# Altium integrated library ThunderKit.IntLib: 58 symbols (part 2 of 2)
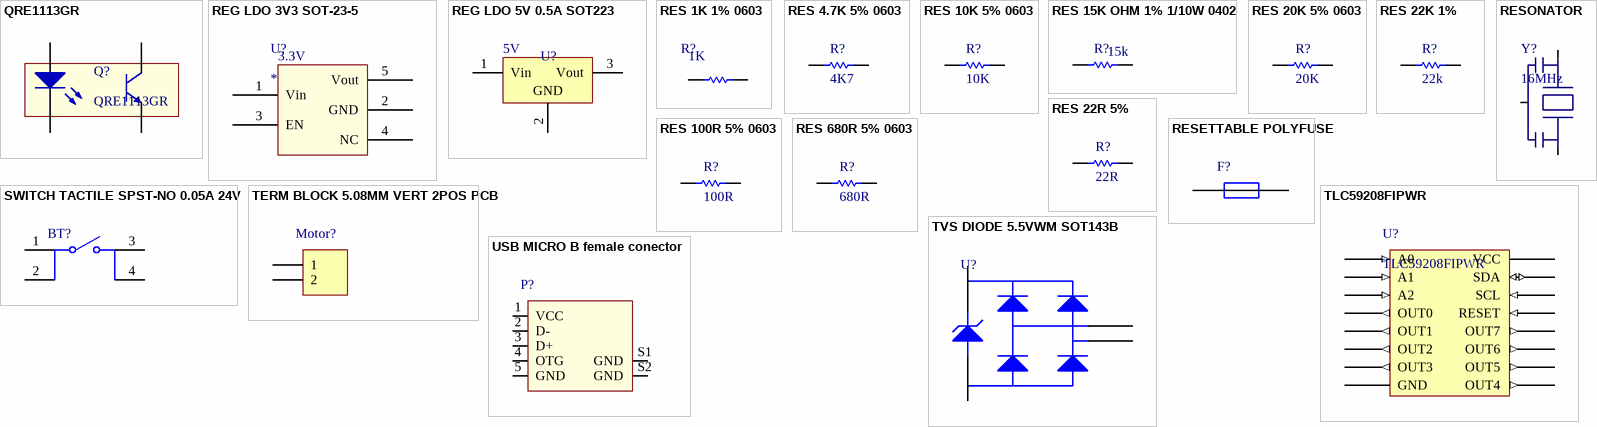
[diagram p2: symbols QRE1113GR to USB MICRO B female conector]

## RES 22R 5%
designator R?, comment 22R
RES SMD 22 OHM 5% 1/20W 0201; Manufacturer: Panasonic Electronic Components; Manufacturer Part Number: ERJ-1GEJ220C; Resistance (Ohms): 22; Power (Watts): 0.05W, 1/20W; Temperature Coefficient: ±200ppm/°C; Supplier 1: Digi-Key; RoHS: RoHS Compliant; Category: Resistors; Stock 1: 409383; Pricing 1: 1=0.1, 10=0.039, 25=0.0284, 50=0.0216, 100=0.0159, 250=0.01216, 500=0.00972, 1000=0.00716, 5000=0.00513 (USD); Packaging: Cut Tape (CT); Part Status: Active; Tolerance: ±5%; Composition: Thick Film; Features: -; Operating Temperature: -55°C ~ 125°C; Package / Case: 0201 (0603 Metric); Supplier Device Package: 0201; Size / Dimension: 0.024" L x 0.012" W (0.60mm x 0.30mm); Height - Seated (Max): 0.010" (0.26mm); Number of Terminations: 2; Failure Rate: -; ComponentLink1URL: http://media.digikey.com/pdf/Data%20Sheets/Panasonic%20Resistors%20Thermistors%20PDFs/ERJ%205%25.pdf; ComponentLink1Description: http://media.digikey.com/pdf/Data%20Sheets/Panasonic%20Resistors%20Thermistors%20PDFs/ERJ%205%25.pdf; Supplier Part Number 1: P22AGCT-ND
footprint RESISTOR 0603 (RES 5% 0603)
pins: 1, 2

## RES 100R 5% 0603
designator R?, comment 100R
Manufacturer: PANASONIC ELECTRONIC COMPONENTS; Manufacturer Part Number: ERJ-3EKF1000V; Product Range: AEC-Q200 ERJ3; Resistance: 100; Resistance Tolerance: 1%; Voltage Rating: 75; Resistor Case Style: 0603 [1608 Metric]; Tolerance: ±1%; Power (Watts): 0.1W, 1/10W; Temperature Coefficient: ±100ppm/°C; Brand: Panasonic; Qualification: AEC-Q200; RoHS: YES; Power Rating: 100; Packaging: Cut Tape; MSL: -; ComponentLink1URL: http://www.farnell.com/cad/1560092.zip; ComponentLink1Description: http://www.farnell.com/cad/1560092.zip; ComponentLink2URL: http://www.farnell.com/datasheets/1678782.pdf; ComponentLink2Description: http://www.farnell.com/datasheets/1678782.pdf; Category: Resistors; Resistance (Ohms): 100; Composition: Thick Film; Features: Automotive AEC-Q200; Operating Temperature: -55°C ~ 155°C; Package / Case: 0603 (1608 Metric); Supplier Device Package: 0603; Size / Dimension: 0.063" L x 0.031" W (1.60mm x 0.80mm); Height: 0.022" (0.55mm); Number of Terminations: 2; ComponentLink3URL: http://industrial.panasonic.com/www-cgi/jvcr13pz.cgi?E+PZ+3+AOA0002+ERJ3EKF1000V+7+WW; ComponentLink3Description: http://industrial.panasonic.com/www-cgi/jvcr13pz.cgi?E+PZ+3+AOA0002+ERJ3EKF1000V+7+WW; Length: 1.6 mm; Operating Temperature Range: - 55 C to + 155 C; Product: Thick Film Resistors SMD; Series: ERJ; Termination Style: SMD/SMT; Type: Precision Thick Film Resistors SMD; Width: 0.8 mm; Case Code - in: 0603; Case Code - mm: 1608; RoHS - Mouser: E; Minimum Order Quantity: 1; Reeling: True; ComponentLink4URL: http://www.mouser.com/ds/2/315/AOA0000C86-911473.pdf; ComponentLink4Description: http://www.mouser.com/ds/2/315/AOA0000C86-911473.pdf; Supplier 1: Mouser; Stock 1: 6963; Pricing 1: 1=0.288, 10=0.174, 100=0.101, 1000=0.069, 5000=0.053, 10000=0.046, 25000=0.042, 50000=0.035, 100000=0.029 (AUD); Diameter: -; Product Category: 0603 Thick Film Chip Resistors; ComponentLink6URL: http://www.mouser.com/ds/2/427/crcwhpe3-46056.pdf; ComponentLink6Description: http://www.mouser.com/ds/2/427/crcwhpe3-46056.pdf; Supplier Part Number 1: 71-CRCW0603100RJNEAH
footprint RESISTOR 0603 (RES 5% 0603)
pins: 1, 2

## RES 680R 5% 0603
designator R?, comment 680R
Manufacturer: PANASONIC ELECTRONIC COMPONENTS; Manufacturer Part Number: ERJ-3GEYJ681V; Product Range: AEC-Q200 ERJ3; Resistance: 680; Power Rating: 100; Resistance Tolerance: 5%; Voltage Rating: 75; Resistor Case Style: 0603 [1608 Metric]; Tolerance: ±5%; Power (Watts): 0.1W, 1/10W; Temperature Coefficient: ±200ppm/°C; Brand: Panasonic; Qualification: AEC-Q200; RoHS: YES; Packaging: Cut Tape; MSL: -; ComponentLink1URL: http://www.farnell.com/cad/1697908.zip; ComponentLink1Description: http://www.farnell.com/cad/1697908.zip; ComponentLink2URL: http://www.farnell.com/datasheets/1678796.pdf; ComponentLink2Description: http://www.farnell.com/datasheets/1678796.pdf; Category: Resistors; Composition: Thick Film; Features: Automotive AEC-Q200; Operating Temperature: -55°C ~ 155°C; Package / Case: 0603 (1608 Metric); Supplier Device Package: 0603; Size / Dimension: 0.063" L x 0.031" W (1.60mm x 0.80mm); Height: 0.022" (0.55mm); Number of Terminations: 2; ComponentLink3URL: http://industrial.panasonic.com/www-cgi/jvcr13pz.cgi?E+PZ+3+AOA0001+ERJ3GEYJ681V+7+WW; ComponentLink3Description: http://industrial.panasonic.com/www-cgi/jvcr13pz.cgi?E+PZ+3+AOA0001+ERJ3GEYJ681V+7+WW; Supplier 1: Mouser; Stock 1: 128818; Pricing 1: 1=0.144, 10=0.032, 100=0.016, 500=0.010, 1000=0.005, 5000=0.005, 10000=0.003 (AUD); Length: 1.6 mm; Operating Temperature Range: - 55 C to + 155 C; Product: Thick Film Resistors SMD; Series: ERJ; Termination Style: SMD/SMT; Type: Thick Film Resistors SMD; Width: 0.8 mm; Case Code - in: 0603; Case Code - mm: 1608; RoHS - Mouser: E; Minimum Order Quantity: 1; Reeling: True; ComponentLink4URL: http://www.mouser.com/ds/2/315/AOA0000C84-947596.pdf; ComponentLink4Description: http://www.mouser.com/ds/2/315/AOA0000C84-947596.pdf; Supplier Part Number 1: 667-ERJ-3GEYJ681V; Resistance (Ohms): 680
footprint RESISTOR 0603 (RES 5% 0603)
pins: 1, 2

## RESETTABLE POLYFUSE
designator F?, comment MF-MSMF050-2  (value not drawn)
FUSE 0.5A 15V 1812; Manufacturer: Bourns Inc.; Current - Max: 100A; Current - Hold (Ih) (Max): 500mA; Current - Trip (It): 1A; R Min/Max: 0.150 ~ 1.000 Ohm; Time to Trip: 0.15s; Supplier 1: Digi-Key; Manufacturer Part Number: MF-MSMF050-2; RoHS: RoHS Compliant; Category: Circuit Protection; Stock 1: 62860; Pricing 1: 1=0.23, 5=0.22, 10=0.211, 50=0.1882, 100=0.1752, 250=0.15576, 500=0.1298, 1000=0.12331 (USD); Packaging: Cut Tape (CT); Part Status: Active; Voltage - Max: 15V; Mounting Type: Surface Mount; Package / Case: 1812 (4532 Metric), Concave; Size / Dimension: 0.179" L x 0.128" W (4.55mm x 3.24mm); Height - Seated (Max): -; Thickness (Max): 0.033" (0.85mm); Lead Spacing: -; ComponentLink1URL: http://www.bourns.com/docs/Product-Datasheets/mfmsmf.pdf; ComponentLink1Description: http://www.bourns.com/docs/Product-Datasheets/mfmsmf.pdf; Supplier Part Number 1: MF-MSMF050-2CT-ND
footprint Fuse 1812 (Molded Capacitor, 2-Leads, Body 4,55x3,24mm, IPC Medium Density)
pins: 1 VCC (power), 2 GND (power)

## RESONATOR
designator Y?, comment 16MHz
CER RES 16.0000MHZ 22PF SMD; Manufacturer: Abracon LLC; Manufacturer Part Number: AWSCR-16.00CV-T; Frequency Stability: ±0.3%; Frequency Tolerance: ±0.5%; Impedance: 40 Ohm; Supplier 1: Digi-Key; RoHS: RoHS Compliant; Category: Crystals, Oscillators, Resonators; Stock 1: 13317; Pricing 1: 1=0.4, 10=0.33, 50=0.297, 100=0.264, 500=0.2508 (USD); Packaging: Cut Tape (CT); Part Status: Active; Type: Ceramic; Frequency: 16MHz; Features: Built in Capacitor; Capacitance: 22pF; Operating Temperature: -25°C ~ 85°C; Mounting Type: Surface Mount; Package / Case: 3-SMD, Non-Standard; Size / Dimension: 0.146" L x 0.122" W (3.70mm x 3.10mm); Height: 0.039" (1.00mm); ComponentLink1URL: http://www.abracon.com/Resonators/AWSCR_CV.pdf; ComponentLink1Description: http://www.abracon.com/Resonators/AWSCR_CV.pdf; Supplier Part Number 1: 535-10008-1-ND
footprint CSTCE
pins: 0 1, 1 2, 2 3

## SWITCH TACTILE SPST-NO 0.05A 24V
designator BT?, comment SPST  (value not drawn)
SWITCH TACTILE SPST-NO 0.05A 24V; Manufacturer: TE Connectivity ALCOSWITCH Switches; Manufacturer Part Number: FSM2JSMAA; Switch Function: Off-Mom; Contact Rating @ Voltage: 0.05A @ 24VDC; Actuator Type: Standard; Actuator Height off PCB, from Pins: 4.30mm; Actuator Orientation: Top Actuated; Outline: 6.00mm x 6.00mm; Illumination: Non-Illuminated; Operating Force: 260gf; Actuator Material: Polyamide (PA), Nylon; Switch Travel: 0.25mm; Mechanical Life: 100,000 Cycles; Supplier 1: Digi-Key; RoHS: RoHS Compliant; Category: Switches; Stock 1: 1989; Pricing 1: 1=0.16, 10=0.159, 25=0.1532, 50=0.1476, 100=0.1394, 250=0.1312, 500=0.12574, 1000=0.09568 (USD); Packaging: Bulk; Part Status: Active; Circuit: SPST-NO; Mounting Type: Surface Mount; Termination Style: Gull Wing; Illumination Voltage (Nominal): -; Illumination Type, Color: -; Ingress Protection: -; Features: -; Operating Temperature: -35°C ~ 85°C; ComponentLink1URL: http://www.te.com/commerce/DocumentDelivery/DDEController?Action=srchrtrv&DocNm=2-1437565-7&DocType=Customer+Drawing&DocLang=English; ComponentLink1Description: http://www.te.com/commerce/DocumentDelivery/DDEController?Action=srchrtrv&DocNm=2-1437565-7&DocType=Customer+Drawing&DocLang=English; Supplier Part Number 1: FSM2JSMAA-ND
footprint TACTILE SWITCH 4.3MM
pins: 1, 2, 3, 4

## TERM BLOCK 5.08MM VERT 2POS PCB
designator Motor?, comment BORNE 2POS  (value not drawn)
TERM BLOCK 5.08MM VERT 2POS PCB; Manufacturer: On Shore Technology Inc.; Manufacturer Part Number: OSTTC022162; Number of Levels: 1; Positions Per Level: 2; Pitch: 0.200" (5.08mm); Mating Orientation: Horizontal with Board; Current: 15A; Voltage: 300V; Wire Gauge: 14-22 AWG; Wire Termination: Screw - Leaf Spring, Wire Guard; Clamp Material - Plating: Steel, Stainless; Screw Material - Plating: Steel - Zinc Plated; Torque - Screw: 0.3 Nm (2.6 Lb-In); Screw Thread: M2.6; Supplier 1: Digi-Key; RoHS: RoHS Compliant; Category: Connectors, Interconnects; Stock 1: 58204; Pricing 1: 1=0.42, 10=0.399, 50=0.2908, 100=0.2793, 250=0.2508, 500=0.2394, 1000=0.1995, 2500=0.1824, 5000=0.171 (USD); Packaging: Bulk; Part Status: Active; Mounting Type: Through Hole; Features: Interlocking (Side); Color: Blue; Operating Temperature: -30°C ~ 105°C; Housing Material: Thermoplastic; Contact Material - Plating: Tin Plated; ComponentLink1URL: http://www.on-shore.com/wp-content/uploads/2015/09/osttcxx2162.pdf; ComponentLink1Description: http://www.on-shore.com/wp-content/uploads/2015/09/osttcxx2162.pdf; Supplier Part Number 1: ED2609-ND
footprint BORNE 2POS
pins: 1, 2

## TLC59208FIPWR
designator U?
IC LED DRIVER LINEAR DIM 50MA 16TSSOP; Manufacturer: Texas Instruments; Internal Switch(s): Yes; Number of Outputs: 8; Voltage - Supply (Min): 3V; Voltage - Supply (Max): 5.5V; Voltage - Output: 17V; Dimming: PWM; Supplier 1: Digi-Key; Manufacturer Part Number: TLC59208FIPWR; RoHS: RoHS Compliant; Category: Integrated Circuits (ICs); Stock 1: 0; Pricing 1: 2000=0.73125 (USD); Packaging: Tape & Reel (TR); Part Status: Active; Type: Linear; Topology: -; Current - Output / Channel: 50mA; Frequency: -; Applications: -; Operating Temperature: -40°C ~ 85°C (TA); Mounting Type: Surface Mount; Package / Case: 16-TSSOP (0.173", 4.40mm Width); Supplier Device Package: 16-TSSOP; ComponentLink1URL: http://www.ti.com/lit/ds/symlink/tlc59208f.pdf; ComponentLink1Description: http://www.ti.com/lit/ds/symlink/tlc59208f.pdf; Supplier Part Number 1: 296-36508-2-ND
footprint TLC59208FIPWR
pins: 1 A0 (in), 2 A1 (in), 3 A2 (in), 4 OUT0 (out), 5 OUT1 (out), 6 OUT2 (out), 7 OUT3 (out), 8 GND (power), 9 OUT4 (out), 10 OUT5 (out), 11 OUT6 (out), 12 OUT7 (out), 13 RESET (in), 14 SCL (in), 15 SDA (io), 16 VCC (power)

## TVS DIODE 5.5VWM SOT143B
designator U?, comment PRTR5V0U2X,215 T  (value not drawn)
CI TVS DIODE; Manufacturer: NXP USA Inc.; Unidirectional Channels: 2; Voltage - Reverse Standoff (Typ): 5.5V (Max); Voltage - Breakdown (Min): 6V; Power Line Protection: Yes; Capacitance @ Frequency: 1pF @ 1MHz; Supplier 1: Digi-Key; Manufacturer Part Number: PRTR5V0U2X,215; RoHS: RoHS Compliant; Category: Circuit Protection; Stock 1: 16307; Pricing 1: 1=0.52, 10=0.447, 100=0.334, 500=0.2624, 1000=0.20276 (USD); Packaging: Cut Tape (CT); Part Status: Active; Type: Steering (Rail to Rail); Bidirectional Channels: -; Voltage - Clamping (Max) @ Ipp: -; Current - Peak Pulse (10/1000µs): -; Power - Peak Pulse: -; Applications: General Purpose; Operating Temperature: -40°C ~ 85°C (TA); Mounting Type: Surface Mount; Package / Case: TO-253-4, TO-253AA; Supplier Device Package: SOT-143B; ComponentLink1URL: http://www.nxp.com/documents/data_sheet/PRTR5V0U2X.pdf; ComponentLink1Description: http://www.nxp.com/documents/data_sheet/PRTR5V0U2X.pdf; Supplier Part Number 1: 568-4140-1-ND
footprint SOT143 (SOT143, 4-Leads, Body 2,92x2,30mm, Pitch 1,90mm, IPC Medium Density)
pins: 1 GND (power), 2, 3, 4 VCC (power)

## USB MICRO B female conector
designator P?, comment ZX62M-B-5P(30)  (value not drawn)
CONN RCPT USB MICRO B ME6 SMD; Manufacturer: Hirose Electric Co Ltd; Connector Type: USB - micro B; Number of Contacts: 5; Gender: Receptacle; Specifications: USB 2.0; Number of Ports: 1; Current Rating: 1.8A; Voltage - Rated: 30VAC; Mating Cycles: 10000; Shielding: Shielded; Material Flammability Rating: UL94 V-0; Supplier 1: Digi-Key; Manufacturer Part Number: ZX62M-B-5P(30); RoHS: RoHS Compliant; Category: Connectors, Interconnects; Stock 1: 0; Pricing 1: 1=0.8, 10=0.701, 25=0.66, 50=0.6326, 100=0.605, 250=0.55, 500=0.495 (USD); Packaging: Cut Tape (CT); Part Status: Active; Mounting Type: Board Edge, Cutout; Surface Mount, Right Angle; Mounting Feature: Horizontal, Mid Mount; Termination: Solder; Features: Pick and Place, Solder Retention; Ingress Protection: -; Operating Temperature: -30°C ~ 85°C; Contact Finish: Gold; Shell/Shielding Material: Steel, Stainless; Insulation Color: Black; ComponentLink1URL: https://www.hirose.com/product/download/?distributor=digikey&type=2d&lang=en&num=ZX62M-B-5P(30); ComponentLink1Description: https://www.hirose.com/product/download/?distributor=digikey&type=2d&lang=en&num=ZX62M-B-5P(30); Supplier Part Number 1: H125273CT-ND
footprint USB MICRO FEMALE
pins: 1 VCC, 2 D-, 3 D+, 4 OTG, 5 GND, S1 GND, S2 GND